# Altium schematic symbol library Tracopower.SchLib: 12 symbols
Pins are listed as number, name and electrical type; pins without a type are passive.

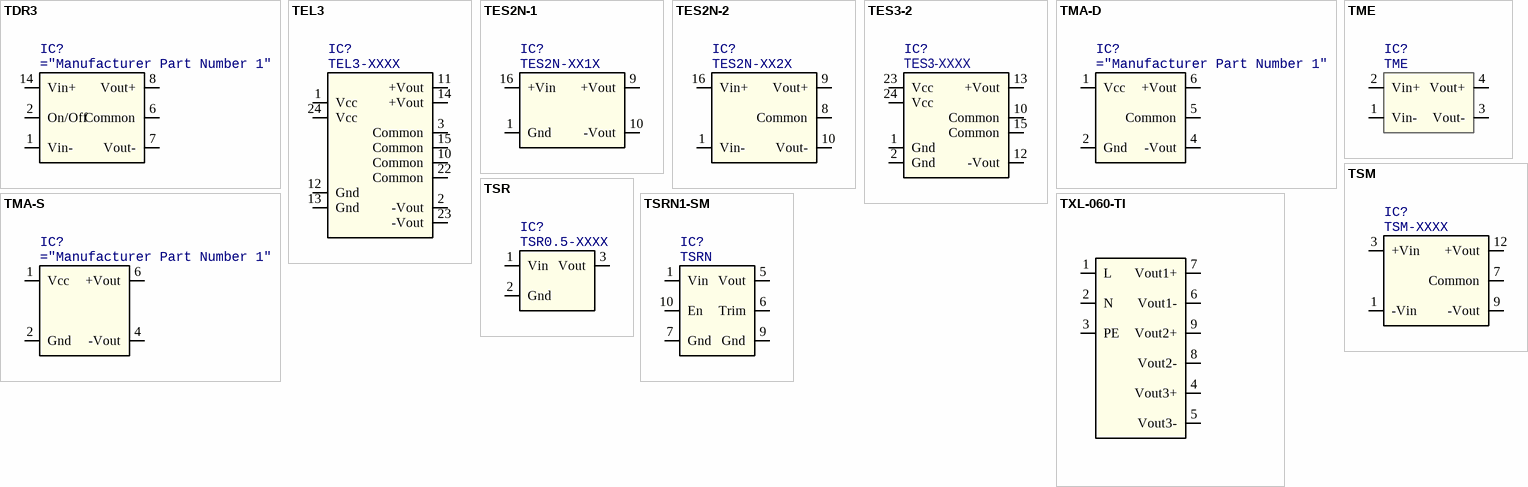
[diagram p0: symbols TDR3 to TXL-060-TI]

## TDR3
designator IC?
DC/DC-Converter, 3W, SMD, Dual Channel
footprint TDR3 (Footprint not found)
footprint TDR3 (DC/DC-Converter, Dual Output, SMD)
pins: 1 Vin- (power), 2 On/Off, 6 Common (power), 7 NC hidden, 7 Vout- (power), 8 Vout+ (power), 9 Common (power), 14 Vin+ (power)

## TEL3
designator IC?, comment TEL3-XXXX
DC/DC-Converter, 3W, DIP; Manufacturer 1: Tracopower; Value: TEL3-XXXX; Manufacturer Part Number 1: TEL3-XXXX
footprint TEL3-XXXX (DIP, 12 of 24 Leads, Body 20x32mm, Pitch 2.54mm)
pins: 1 Vcc (power), 2 -Vout (power), 3 Common, 10 Common, 11 +Vout (power), 12 Gnd (power), 13 Gnd (power), 14 +Vout (power), 15 Common, 22 Common, 23 -Vout (power), 24 Vcc (power)

## TES2N-1
designator IC?, comment TES2N-XX1X
DC/DC-Converter, 2W, SMD, Single Channel; Manufacturer 1: Tracopower; Manufacturer Part Number 1: TES2N-XX1X
footprint TES2N-XXXX (SOP, 16-Leads, Body 24,00x13,70mm, Pitch 2,54mm, IPC Medium Density)
pins: 1 Gnd (power), 7 NC hidden, 8 NC hidden, 9 +Vout (power), 10 -Vout (power), 16 +Vin (power)

## TES2N-2
designator IC?, comment TES2N-XX2X
DC/DC-Converter, 2W, SMD, Dual Channel; Manufacturer 1: Tracopower; Manufacturer Part Number 1: TES2N-XX2X
footprint TES2N-XXXX (SOP, 16-Leads, Body 24,00x13,70mm, Pitch 2,54mm, IPC Medium Density)
pins: 1 Vin- (power), 7 NC hidden, 8 Common (power), 9 Vout+ (power), 10 Vout- (power), 16 Vin+ (power)

## TES3-2
designator IC?, comment TES3-XXXX
DC/DC-Converter, 3W, SMD, Dual Channel; Manufacturer 1: Tracopower; Value: TES3-XXXX; Manufacturer Part Number 1: TES3-XXXX
footprint TES3-XXXX (SOP, 12 of 24 Leads, Body 32,3x14,8mm, Pitch 2,54mm)
pins: 1 Gnd (power), 2 Gnd (power), 3 NC hidden, 10 Common, 11 NC hidden, 12 -Vout (power), 13 +Vout (power), 14 NC hidden, 15 Common, 22 NC hidden, 23 Vcc (power), 24 Vcc (power)

## TMA-D
designator IC?
DC/DC-Converter, 1W, SIP, Dual Output; Value: "Manufacturer Part Number 1"
footprint TMA-XXXXX (SIP, 5 of 6 Leads, Body 6x19.5mm, Pitch 2.54mm)
pins: 1 Vcc (power), 2 Gnd (power), 4 -Vout (power), 5 Common, 6 +Vout (power)

## TMA-S
designator IC?
DC/DC-Converter, 1W, SIP, Single Output; Value: ="Manufacturer Part Number 1"
footprint TMA-XXXXX (SIP, 5 of 6 Leads, Body 6x19.5mm, Pitch 2.54mm)
pins: 1 Vcc (power), 2 Gnd (power), 4 -Vout (power), 5 Common hidden, 6 +Vout (power)

## TME
designator IC?
DC/DC-Converter, SIP, Isolated; Manufacturer 1: Tracopower; Manufacturer Part Number 1: TME
footprint TME
pins: 1 Vin- (power), 2 Vin+ (power), 3 Vout- (power), 4 Vout+ (power)

## TSM
designator IC?, comment TSM-XXXX
DC/DC-Converter, 1W, SMD; Manufacturer 1: Tracopower; Value: TSM-XXXX; Manufacturer Part Number 1: TSM-XXXX
footprint TSM-XXX (SOIC, 10-Leads, Body 15.24x8.30mm, Pitch 2.54mm)
pins: 1 -Vin (power), 3 +Vin (power), 5 NC hidden, 7 Common, 9 -Vout (power), 10 NC hidden, 12 +Vout, 14 NC hidden, 16 NC hidden, 18 NC hidden

## TSR
designator IC?, comment TSR0.5-XXXX
DC/DC-Converter, 0.5A, SIP; Manufacturer 1: Tracopower; Value: TSR0.5-XXXX; Manufacturer Part Number 1: TSR0.5-XXXX
footprint TSR0.5-24XX (DC/DC-Converter, 0.5W, SIP)
pins: 1 Vin (power), 2 Gnd (power), 3 Vout (power)

## TSRN1-SM
designator IC?, comment TSRN
DC/DC-Converter, 1A, SMD; Manufacturer 1: Tracopower; Manufacturer Part Number 1: TSRN
footprint TSRN (DC/DC-Converter, adjustable, SMD)
pins: 1 Vin (power), 5 Vout (power), 6 Trim, 7 Gnd (power), 9 Gnd (power), 10 En

## TXL-060-TI
designator PSU?
AC/DC-PSU, 60W, 3 Output; Value: *
pins: 1 L, 2 N, 3 PE, 4 Vout3+, 5 Vout3-, 6 Vout1-, 7 Vout1+, 8 Vout2-, 9 Vout2+